# Altium footprint library MIRCOD.PcbLib: 15 footprints
Each footprint in its own frame and in the unit in brackets; x right, y up, seen from the top. Pads: shape width x height; smd on the part's side, far side on the other; paste and mask are expansions set on the pad; w line width, h text height; cw(c..) or ccw(c..) is an arc to the next point about the centre after c.
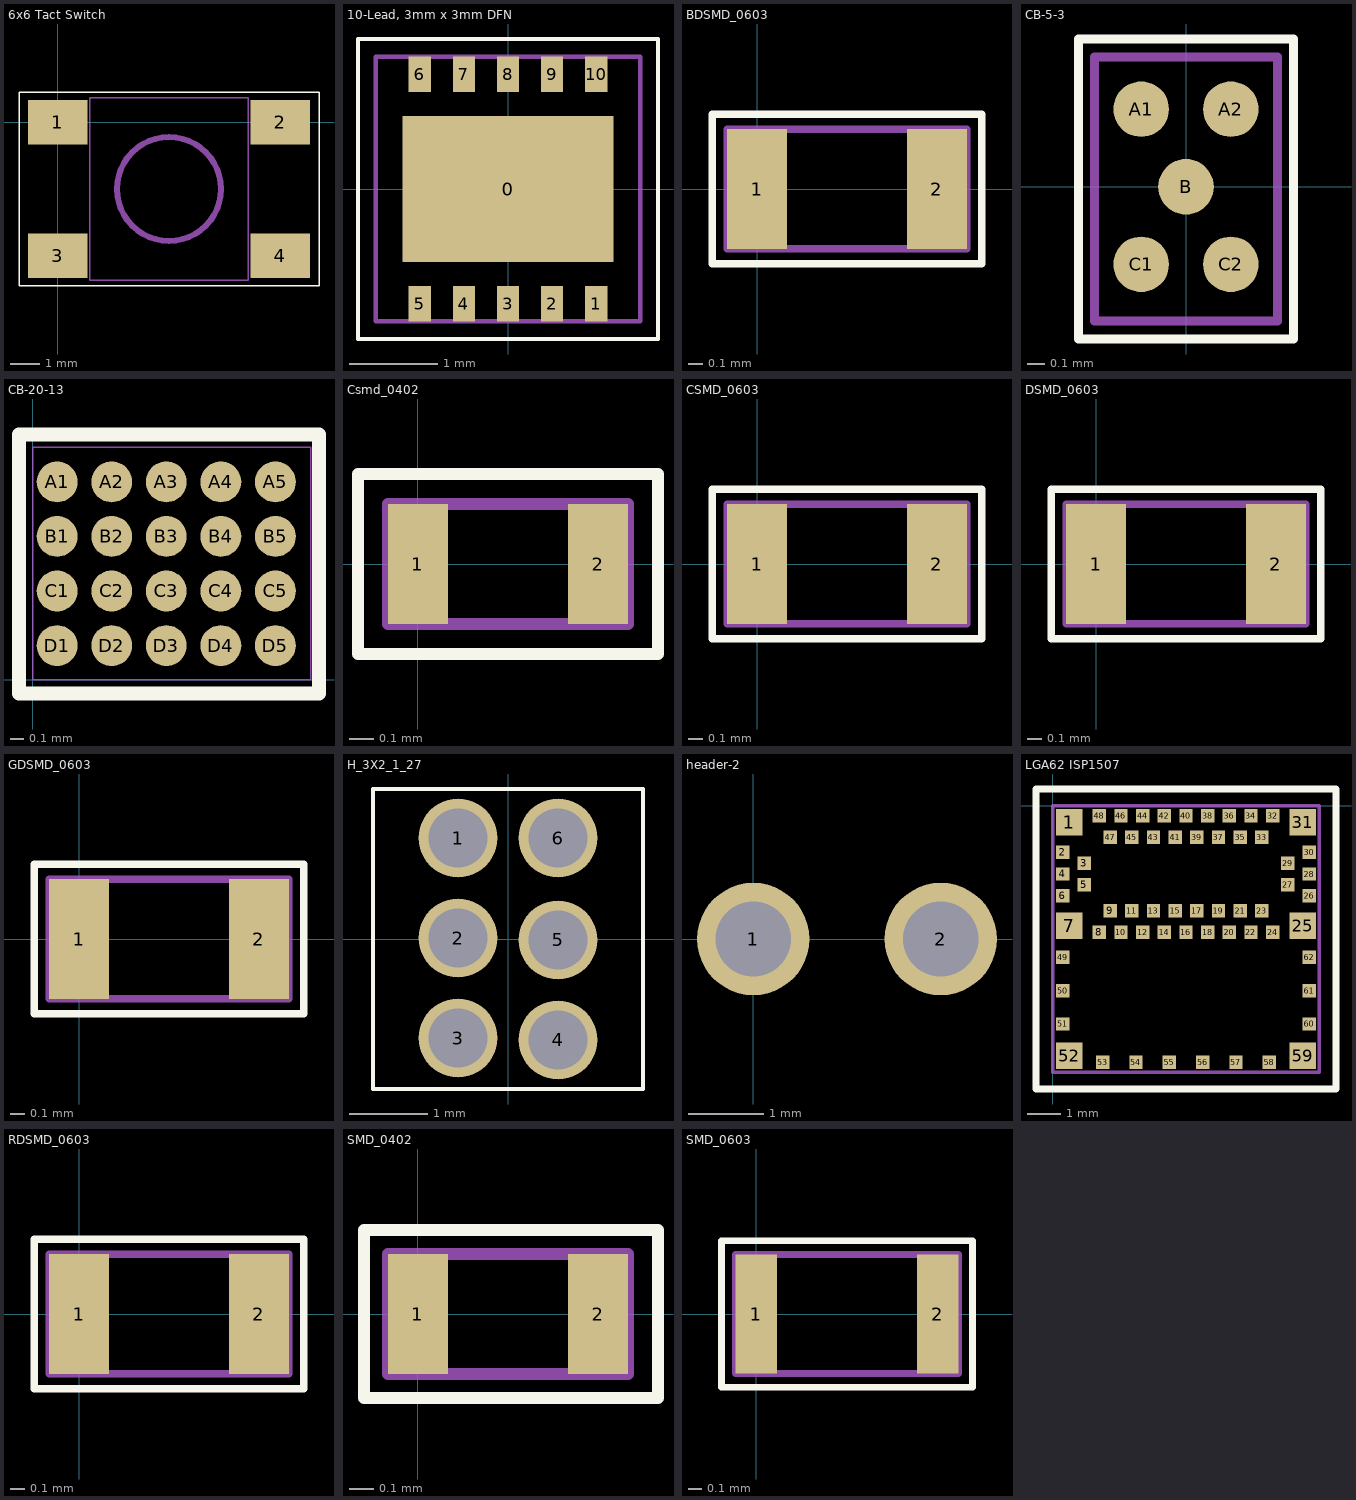
[diagram p0: the footprints below, top view; thin cyan lines are the x and y axes]

## 6x6 Tact Switch [mm] "KLS7-TS6604 6x6 Tact Switch Series"
pads (4):
  rect 2x1.5 smd mask+0.1: 1(0,0) 2(7.5,0) 3(0,-4.5) 4(7.5,-4.5)
Top Overlay:
  lines w0.05: -1.3,-5.5 -1.3,1 8.8,1 8.8,-5.5 -1.3,-5.5
Mechanical 1:
  circle w0.2: c3.75,-2.25 r1.75
  lines w0.05: 1.075,-5.325 1.25,-5.325 6.3,-5.325 6.425,-5.325 6.425,-5.2 6.425,0.775 6.425,0.825 6.3,0.825 1.25,0.825 1.075,0.825 1.075,0.775 1.075,-5.2 1.075,-5.325
3D body: height 4.3, standoff 0, extent 1.992,-4.008 5.508,-0.492
3D body: height 3.5, standoff 0, extent 1.05,-5.35 6.45,0.85

## 10-Lead, 3mm x 3mm DFN [mm] "10-Lead Plastic Dual-Flat No-Lead Package (MF) 3x3x0.9 mm Body (DFN)"
pads (11):
  rect 2.39x1.65 smd: 0(0,0)
  rect 0.25x0.4 smd mask+0.05: 1(1,-1.3) 2(0.5,-1.3) 3(0,-1.3) 4(-0.5,-1.3) 5(-1,-1.3) 6(-1,1.3) 7(-0.5,1.3) 8(0,1.3) 9(0.5,1.3) 10(1,1.3)
Top Overlay:
  lines w0.05: -1.7,-1.7 1.7,-1.7 1.7,1.7 -1.7,1.7 -1.7,-1.7
Mechanical 1:
  lines w0.05: -1.5,-1.5 -1.5,1.5 1.5,1.5 1.5,-1.5 -1.5,-1.5
3D body: height 0.9, standoff 0.02, extent -1.525,-1.525 1.525,1.525

## BDSMD_0603 [mm] "FOR DIODE"
pads (2):
  rect 0.4x0.8 smd mask+0.05: 1(0,0) 2(1.2,0)
Top Overlay:
  lines w0.05: -0.3,-0.5 -0.3,0.5 1.5,0.5 1.5,-0.5 -0.3,-0.5
Mechanical 1:
  lines w0.05: -0.2,-0.4 -0.2,0.4 1.4,0.4 1.4,-0.4 -0.2,-0.4
3D body: height 0.9, standoff 0, extent -0.225,-0.425 1.425,0.425

## CB-5-3 [mm] "5-Ball Wafer Level Chip Scale Package [WLCSP]"
pads (5):
  round 0.31 smd mask+0.05: A1(-0.25,0.433) A2(0.25,0.433) B(0,0) C1(-0.25,-0.433) C2(0.25,-0.433)
Top Overlay:
  lines w0.05: -0.6,-0.85 0.6,-0.85 0.6,0.825 -0.6,0.825 -0.6,-0.85
Mechanical 1:
  lines w0.05: -0.51,-0.75 0.51,-0.75 0.51,0.725 -0.51,0.725 -0.51,-0.75
3D body: height 0.6, standoff 0.25, extent -0.535,-0.775 0.535,0.75

## CB-20-13 [mm] "20-Ball, Backside-Coated, Wafer Level Chip Scale Package [WLCSP]"
pads (20):
  round 0.3 smd mask+0.01: A1(0.18,1.452) A2(0.58,1.452) A3(0.98,1.452) A4(1.38,1.452) A5(1.78,1.452) B1(0.18,1.052) B2(0.58,1.052) B3(0.98,1.052) B4(1.38,1.052) B5(1.78,1.052) C1(0.18,0.652) C2(0.58,0.652) C3(0.98,0.652) C4(1.38,0.652) C5(1.78,0.652) D1(0.18,0.252) D2(0.58,0.252) D3(0.98,0.252) D4(1.38,0.252) D5(1.78,0.252)
Top Overlay:
  lines w0.1: -0.1,-0.1 0,-0.1 2.1,-0.1 2.1,1.8 -0.1,1.8 -0.1,-0.1
Mechanical 1:
  lines w0.01: 0,0 2.04,0 2.04,1.705 0,1.705 0,0
3D body: height 0.5, standoff 0.2, extent -0.005,-0.005 2.045,1.71

## Csmd_0402 [mm] "FOR CAP"
pads (2):
  rect 0.25x0.5 smd mask+0.05: 1(0,0) 2(0.75,0)
Top Overlay:
  lines w0.05: -0.25,-0.375 1,-0.375 1,0.375 -0.25,0.375 -0.25,-0.375
Mechanical 1:
  lines w0.05: -0.125,-0.25 0.875,-0.25 0.875,0.25 -0.125,0.25 -0.125,-0.25
3D body: height 0.55, standoff 0, extent -0.15,-0.275 0.9,0.275

## CSMD_0603 [mm] "FOR CAP"
pads (2):
  rect 0.4x0.8 smd mask+0.05: 1(0,0) 2(1.2,0)
Top Overlay:
  lines w0.05: -0.3,-0.5 -0.3,0.5 1.5,0.5 1.5,-0.5 -0.3,-0.5
Mechanical 1:
  lines w0.05: -0.2,-0.4 -0.2,0.4 1.4,0.4 1.4,-0.4 -0.2,-0.4
3D body: height 0.9, standoff 0, extent -0.225,-0.425 1.425,0.425

## DSMD_0603 [mm] "FOR DIODE"
pads (2):
  rect 0.4x0.8 smd mask+0.05: 1(0,0) 2(1.2,0)
Top Overlay:
  lines w0.05: -0.3,-0.5 1.5,-0.5 1.5,0.5 -0.3,0.5 -0.3,-0.5
Mechanical 1:
  lines w0.05: -0.2,-0.4 1.4,-0.4 1.4,0.4 -0.2,0.4 -0.2,-0.4
3D body: height 0.9, standoff 0, extent -0.225,-0.425 1.425,0.425

## GDSMD_0603 [mm] "FOR DIODE"
pads (2):
  rect 0.4x0.8 smd mask+0.05: 1(0,0) 2(1.2,0)
Top Overlay:
  lines w0.05: -0.3,-0.5 -0.3,0.5 1.5,0.5 1.5,-0.5 -0.3,-0.5
Mechanical 1:
  lines w0.05: -0.2,-0.4 -0.2,0.4 1.4,0.4 1.4,-0.4 -0.2,-0.4
3D body: height 0.9, standoff 0, extent -0.225,-0.425 1.425,0.425

## H_3X2_1_27 [mm] "PORT"
pads (6):
  round 1 hole 0.75 mask+0.05: 1(-0.635,1.282) 2(-0.635,0.012) 3(-0.635,-1.258) 4(0.635,-1.282) 5(0.635,-0.012) 6(0.635,1.282)
Top Overlay:
  lines w0.05: -1.715,-1.905 -1.715,1.905 1.715,1.905 1.715,-1.905 -1.715,-1.905
Mechanical 1:
  circle w0.2: c0.635,1.282 r0.35
  circle w0.2: c0.635,-0.012 r0.35
  circle w0.2: c0.635,-1.282 r0.35
  circle w0.2: c-0.635,-1.258 r0.35
  circle w0.2: c-0.635,0.012 r0.35
  circle w0.2: c-0.635,1.282 r0.35
3D body: height 5, standoff 0, extent 0.279,0.926 0.991,1.639
3D body: height 5, standoff 0, extent 0.279,-0.369 0.991,0.344
3D body: height 5, standoff 0, extent 0.279,-1.639 0.991,-0.926
3D body: height 5, standoff 0, extent -0.991,0.926 -0.279,1.639
3D body: height 5, standoff 0, extent -0.991,-0.344 -0.279,0.369
3D body: height 5, standoff 0, extent -0.991,-1.614 -0.279,-0.901

## header-2 [mm]
pads (2):
  round 1.5 hole 1: 1(0,0) 2(2.5,0)

## LGA62 ISP1507 [mm]
pads (62):
  rect 0.8x0.8 smd: 1(0.5,-0.5) 7(0.5,-3.6) 25(7.5,-3.6) 31(7.5,-0.5) 52(0.5,-7.5) 59(7.5,-7.5)
  rect 0.4x0.4 smd: 2(0.3,-1.4) 3(0.95,-1.725) 4(0.3,-2.05) 5(0.95,-2.375) 6(0.3,-2.7) 8(1.4,-3.8) 9(1.725,-3.15) 10(2.05,-3.8) 11(2.375,-3.15) 12(2.7,-3.8) 13(3.025,-3.15) 14(3.35,-3.8) 15(3.675,-3.15) 16(4,-3.8) 17(4.325,-3.15) 18(4.65,-3.8) 19(4.975,-3.15) 20(5.3,-3.8) 21(5.625,-3.15) 22(5.95,-3.8) 23(6.275,-3.15) 24(6.6,-3.8) 26(7.7,-2.7) 27(7.05,-2.375) 28(7.7,-2.05) 29(7.05,-1.725) 30(7.7,-1.4) 32(6.6,-0.3) 33(6.275,-0.95) 34(5.95,-0.3) 35(5.625,-0.95) 36(5.3,-0.3) 37(4.975,-0.95) 38(4.65,-0.3) 39(4.325,-0.95) 40(4,-0.3) 41(3.675,-0.95) 42(3.35,-0.3) 43(3.025,-0.95) 44(2.7,-0.3) 45(2.375,-0.95) 46(2.05,-0.3) 47(1.725,-0.95) 48(1.4,-0.3) 49(0.3,-4.55) 50(0.3,-5.55) 51(0.3,-6.55) 53(1.5,-7.7) 54(2.5,-7.7) 55(3.5,-7.7) 56(4.5,-7.7) 57(5.5,-7.7) 58(6.5,-7.7) 60(7.7,-6.55) 61(7.7,-5.55) 62(7.7,-4.55)
Top Overlay:
  lines w0.2: -0.5,-8.5 8.5,-8.5 8.5,0.5 -0.5,0.5 -0.5,-8.5
Mechanical 1:
  lines w0.1: 0,-8 8,-8 8,0 0,0 0,-8
3D body: height 1, standoff 0, extent -0.05,-8.05 8.05,0.05

## RDSMD_0603 [mm] "FOR DIODE"
pads (2):
  rect 0.4x0.8 smd mask+0.05: 1(0,0) 2(1.2,0)
Top Overlay:
  lines w0.05: -0.3,-0.5 -0.3,0.5 1.5,0.5 1.5,-0.5 -0.3,-0.5
Mechanical 1:
  lines w0.05: -0.2,-0.4 -0.2,0.4 1.4,0.4 1.4,-0.4 -0.2,-0.4
3D body: height 0.9, standoff 0, extent -0.225,-0.425 1.425,0.425

## SMD_0402 [mm] "FOR RES"
pads (2):
  rect 0.25x0.5 smd mask+0.05: 1(0,0) 2(0.75,0)
Top Overlay:
  lines w0.05: -0.225,-0.35 1,-0.35 1,0.35 -0.225,0.35 -0.225,-0.35
Mechanical 1:
  lines w0.05: -0.125,-0.25 0.875,-0.25 0.875,0.25 -0.125,0.25 -0.125,-0.25
3D body: height 0.35, standoff 0, extent -0.125,-0.25 0.875,0.25

## SMD_0603 [mm] "FOR RES"
pads (2):
  rect 0.3x0.85 smd mask+0.05: 1(0,0) 2(1.3,0)
Top Overlay:
  lines w0.05: -0.25,-0.525 1.55,-0.525 1.55,0.525 -0.25,0.525 -0.25,-0.525
Mechanical 1:
  lines w0.05: -0.15,-0.425 1.45,-0.425 1.45,0.425 -0.15,0.425 -0.15,-0.425
3D body: height 0.45, standoff 0, extent -0.175,-0.45 1.475,0.45